# Altium schematic symbol library meadow.SchLib: 1 symbol
Pins are listed as number, name and electrical type; pins without a type are passive.

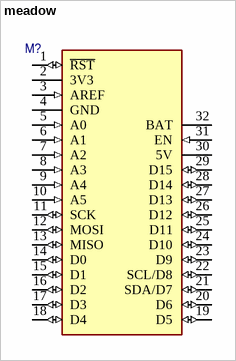
[diagram p0: symbol meadow]

## meadow
designator M?  (value not drawn)
meadow STM32F7 Micro with .NET
pins: 1 ~{RST} (io), 2 3V3 (power), 3 AREF (in), 4 GND (power), 5 A0 (in), 6 A1 (in), 7 A2 (in), 8 A3 (in), 9 A4 (in), 10 A5 (in), 11 SCK (io), 12 MOSI (io), 13 MISO (io), 14 D0 (io), 15 D1 (io), 16 D2 (io), 17 D3 (io), 18 D4 (io), 19 D5 (io), 20 D6 (io), 21 SDA/D7 (io), 22 SCL/D8 (io), 23 D9 (io), 24 D10 (io), 25 D11 (io), 26 D12 (io), 27 D13 (io), 28 D14 (io), 29 D15 (io), 30 5V (power), 31 EN (in), 32 BAT (power)